# EAGLE library part SCHA5B0200 (library SCHA5B0200)
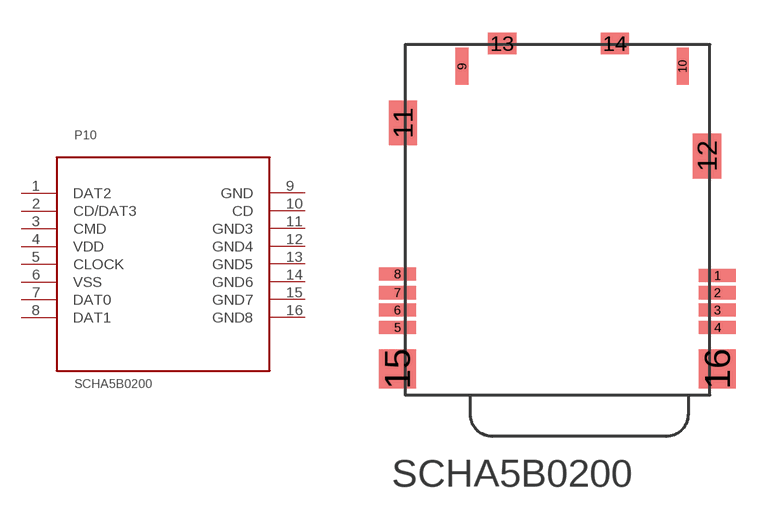
[diagram p0: symbol with the pads of SCHA5B0200; footprint SCHA5B0200]

Designator prefix -

## SCHA5B0200  [SCHA5B0200]
1  DAT2
2  CD/DAT3
3  CMD
4  VDD
5  CLOCK
6  VSS
7  DAT0
8  DAT1
9  GND
10  CD
11  GND3
12  GND4
13  GND5
14  GND6
15  GND7
16  GND8

## Footprint SCHA5B0200 (pad centres in mm)
smd 1.7 x 0.6: 1 18.78,8.437; 2 18.78,7.65; 3 18.78,6.85; 4 18.78,6.05; 5 4.08,6.05; 6 4.08,6.85; 7 4.08,7.65; 8 4.08,8.509
smd 0.6 x 1.7: 9 7.044,18.05
smd 0.549 x 1.7: 10 17.189,18.05
smd 1.294 x 2.054: 11 4.334,15.456; 12 18.304,13.932
smd 1.292 x 1: 13 8.894,19.1; 14 14.072,19.1
smd 1.7 x 1.8: 15 4.08,4.15; 16 18.78,4.15